# EAGLE library part SM_1231_AI4X13BIT (library e-sps)
SM 1231 AI 4 x 13 Bit Source: s71200_easy_book_de-DE_de-DE.pdf
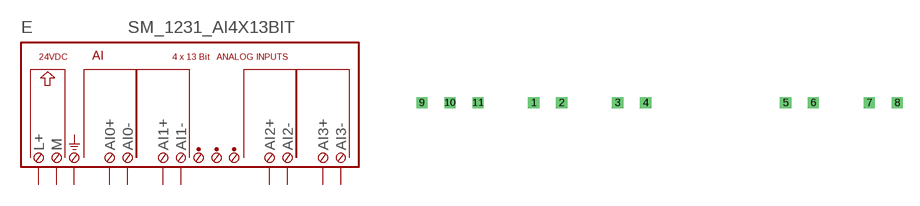
[diagram p12: symbol with the pads of SM_1231_AI4X13BIT; footprint SM_1231_AI4X13BIT]

Designator prefix E

## SM_1231_AI4X13BIT  [SM_1231_AI4X13BIT]
1  AI0+  pas
2  AI0-  pas
3  AI1+  pas
4  AI1-  pas
5  AI2+  pas
6  AI2-  pas
7  AI3+  pas
8  AI3-  pas
9  L+  pas
10  M  pas
11  PE  pas

## Footprint SM_1231_AI4X13BIT (pad centres in mm)
Dummy
drill 0.5 pad 1 square: 1 -10.16,-20.32; 2 -7.62,-20.32; 3 -2.54,-20.32; 4 0,-20.32; 5 12.7,-20.32; 6 15.24,-20.32; 7 20.32,-20.32; 8 22.86,-20.32; 9 -20.32,-20.32; 10 -17.78,-20.32; 11 -15.24,-20.32